# Altium footprint library PCB - CONNECTOR - SAMTEC TFM-115-ZZ-XXX-D-A.PCBLIB: 1 footprints
Each footprint in its own frame and in the unit in brackets; x right, y up, seen from the top. Pads: shape width x height; smd on the part's side, far side on the other; paste and mask are expansions set on the pad; w line width, h text height; cw(c..) or ccw(c..) is an arc to the next point about the centre after c.
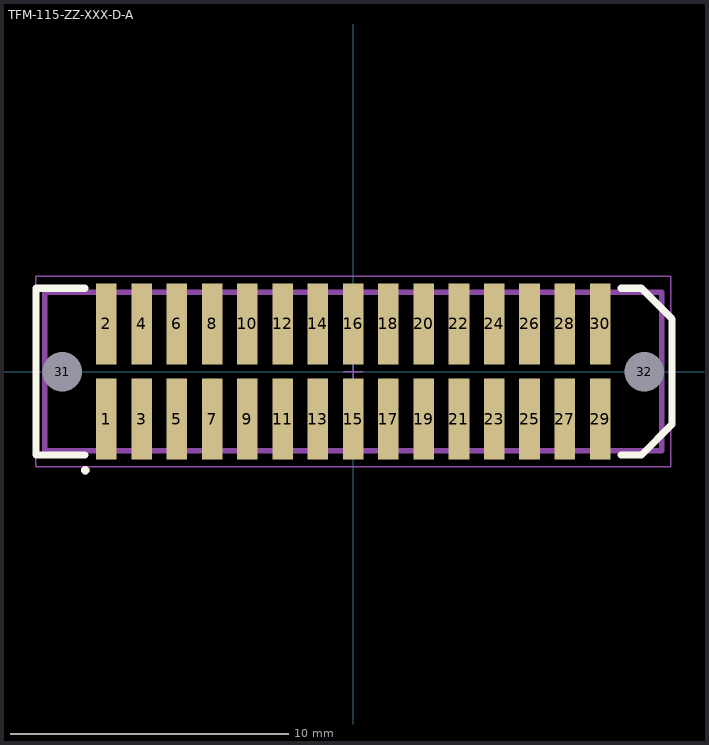
[diagram p0: the footprint, top view; thin cyan lines are the x and y axes]

## TFM-115-ZZ-XXX-D-A [mm]
pads (32):
  rect 0.74x2.92 smd: 1(-8.89,-1.715) 2(-8.89,1.715) 3(-7.62,-1.715) 4(-7.62,1.715) 5(-6.35,-1.715) 6(-6.35,1.715) 7(-5.08,-1.715) 8(-5.08,1.715) 9(-3.81,-1.715) 10(-3.81,1.715) 11(-2.54,-1.715) 12(-2.54,1.715) 13(-1.27,-1.715) 14(-1.27,1.715) 15(0,-1.715) 16(0,1.715) 17(1.27,-1.715) 18(1.27,1.715) 19(2.54,-1.715) 20(2.54,1.715) 21(3.81,-1.715) 22(3.81,1.715) 23(5.08,-1.715) 24(5.08,1.715) 25(6.35,-1.715) 26(6.35,1.715) 27(7.62,-1.715) 28(7.62,1.715) 29(8.89,-1.715) 30(8.89,1.715)
  round 0.71 hole 1.42 unplated: 31(-10.48,0) 32(10.48,0)
Top Overlay:
  circle w0.2: c-9.652,-3.556 r0.05
  lines w0.254: -9.652,-3 -11.43,-3 -11.43,3 -9.652,3 ; 9.652,-3 10.388,-3 11.488,-1.9 11.488,1.9 10.388,3 9.652,3
Top Assembly:
  circle w0.2: c-9.652,-3.556 r0.05
  lines w0.2: -11.115,-2.86 11.115,-2.86 11.115,2.86 -11.115,2.86 -11.115,-2.86
Top Courtyard:
  lines w0.05: -11.43,-3.429 11.43,-3.429 11.43,3.429 -11.43,3.429 -11.43,-3.429
Top Designator:
  text ".Designator" at -0.254,-0.254 h1
Top Component Center:
  lines w0.05: -0.35,0 0.35,0 ; 0,-0.35 0,0.35
3D body "TFM-115-02-L-D-A.stp": height 5.59, standoff -1.14, extent -11.1,-2.984 11.125,2.985